# Altium footprint library Connector_Molex.PcbLib: 815 footprints (part 35 of 51)
Each footprint in its own frame and in the unit in brackets; x right, y up, seen from the top. Pads: shape width x height; smd on the part's side, far side on the other; paste and mask are expansions set on the pad; w line width, h text height; cw(c..) or ccw(c..) is an arc to the next point about the centre after c.
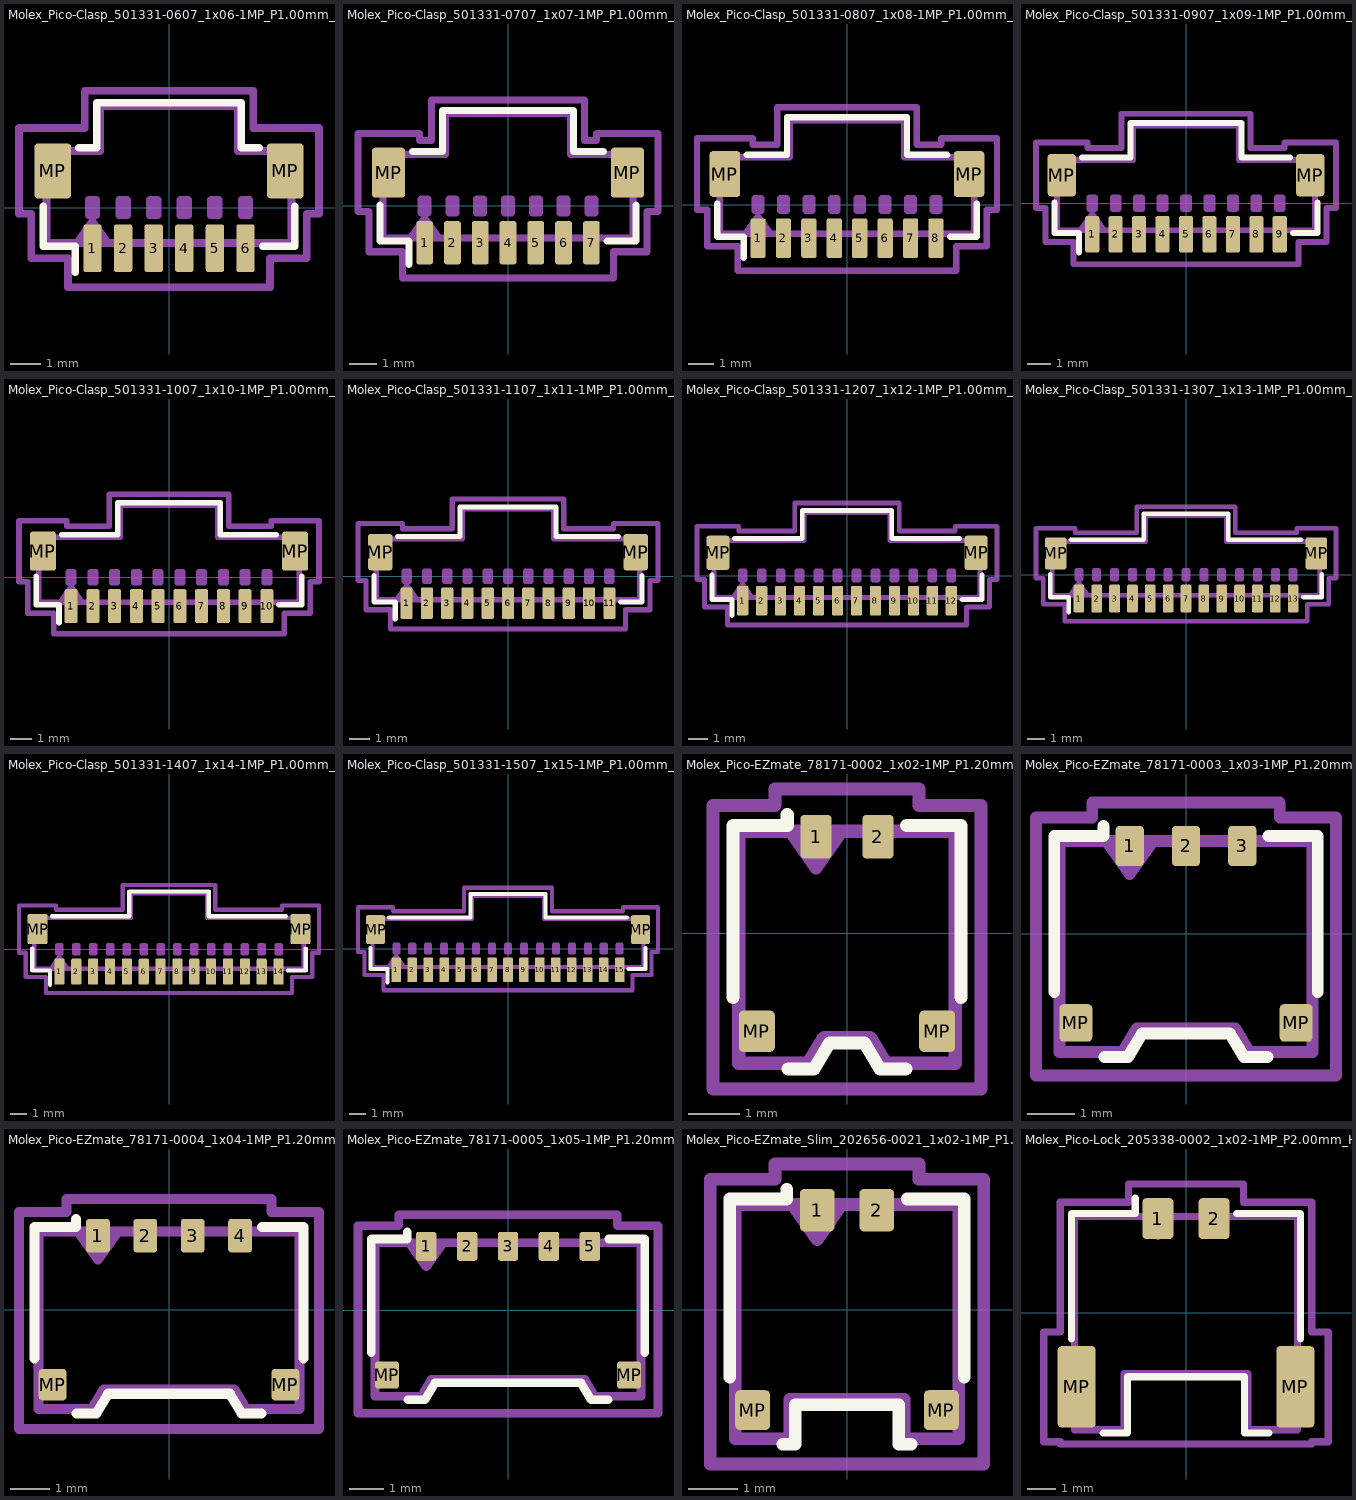
[diagram p34: the footprints below, top view; thin cyan lines are the x and y axes]

## Molex_Pico-Clasp_501331-0607_1x06-1MP_P1.00mm_Vertical [mm]
pads (8):
  rrect25% 0.6x1.55 smd: 1(-2.5,-1.325) 2(-1.5,-1.325) 3(-0.5,-1.325) 4(0.5,-1.325) 5(1.5,-1.325) 6(2.5,-1.325)
  rrect21% 1.2x1.8 smd: MP(-3.8,1.2) MP(3.8,1.2)
F.SilkS:
  lines w0.254: -4.11,0.04 -4.11,-1.26 -3.06,-1.26 -3.06,-2.1 ; -2.94,1.96 -2.36,1.96 -2.36,3.43 2.36,3.43 2.36,1.96 2.94,1.96 ; 3.06,-1.26 4.11,-1.26 4.11,0.04
Top Assembly:
  lines w0.254: -3,-1.15 -2.5,-0.443 -2,-1.15 ; -4,-1.15 4,-1.15 4,1.85 2.25,1.85 2.25,3.32 -2.25,3.32 -2.25,1.85 -4,1.85 -4,-1.15 ; -2.625,-0.25 -2.375,-0.25 -2.375,0.25 -2.625,0.25 -2.625,-0.25 ; -1.625,-0.25 -1.375,-0.25 -1.375,0.25 -1.625,0.25 -1.625,-0.25 ; -0.625,-0.25 -0.375,-0.25 -0.375,0.25 -0.625,0.25 -0.625,-0.25 ; 0.375,-0.25 0.625,-0.25 0.625,0.25 0.375,0.25 0.375,-0.25 ; 1.375,-0.25 1.625,-0.25 1.625,0.25 1.375,0.25 1.375,-0.25 ; 2.375,-0.25 2.625,-0.25 2.625,0.25 2.375,0.25 2.375,-0.25
  text "'.Designator'" at -4.047,0.31 h1
Top Courtyard:
  lines w0.254: -4.9,-0.2 -4.5,-0.2 -4.5,-1.65 -3.3,-1.65 -3.3,-2.6 3.3,-2.6 3.3,-1.65 4.5,-1.65 4.5,-0.2 4.9,-0.2 4.9,2.6 2.75,2.6 2.75,3.82 -2.75,3.82 -2.75,2.6 -4.9,2.6 -4.9,-0.2
Top Designator:
  text ".Designator" at -7.618,0.102 h1.52

## Molex_Pico-Clasp_501331-0707_1x07-1MP_P1.00mm_Vertical [mm]
pads (9):
  rrect25% 0.6x1.55 smd: 1(-3,-1.325) 2(-2,-1.325) 3(-1,-1.325) 4(0,-1.325) 5(1,-1.325) 6(2,-1.325) 7(3,-1.325)
  rrect21% 1.2x1.8 smd: MP(-4.3,1.2) MP(4.3,1.2)
F.SilkS:
  lines w0.254: -4.61,0.04 -4.61,-1.26 -3.56,-1.26 -3.56,-2.1 ; -3.44,1.96 -2.36,1.96 -2.36,3.43 2.36,3.43 2.36,1.96 3.44,1.96 ; 3.56,-1.26 4.61,-1.26 4.61,0.04
Top Assembly:
  lines w0.254: -3.5,-1.15 -3,-0.443 -2.5,-1.15 ; -4.5,-1.15 4.5,-1.15 4.5,1.85 2.25,1.85 2.25,3.32 -2.25,3.32 -2.25,1.85 -4.5,1.85 -4.5,-1.15 ; -3.125,-0.25 -2.875,-0.25 -2.875,0.25 -3.125,0.25 -3.125,-0.25 ; -2.125,-0.25 -1.875,-0.25 -1.875,0.25 -2.125,0.25 -2.125,-0.25 ; -1.125,-0.25 -0.875,-0.25 -0.875,0.25 -1.125,0.25 -1.125,-0.25 ; -0.125,-0.25 0.125,-0.25 0.125,0.25 -0.125,0.25 -0.125,-0.25 ; 0.875,-0.25 1.125,-0.25 1.125,0.25 0.875,0.25 0.875,-0.25 ; 1.875,-0.25 2.125,-0.25 2.125,0.25 1.875,0.25 1.875,-0.25 ; 2.875,-0.25 3.125,-0.25 3.125,0.25 2.875,0.25 2.875,-0.25
  text "'.Designator'" at -4.047,0.31 h1
Top Courtyard:
  lines w0.254: -5.4,-0.2 -5,-0.2 -5,-1.65 -3.8,-1.65 -3.8,-2.6 3.8,-2.6 3.8,-1.65 5,-1.65 5,-0.2 5.4,-0.2 5.4,2.6 3.19,2.6 3.19,2.35 2.75,2.35 2.75,3.82 -2.75,3.82 -2.75,2.35 -3.19,2.35 -3.19,2.6 -5.4,2.6 -5.4,-0.2
Top Designator:
  text ".Designator" at -7.618,0.102 h1.52

## Molex_Pico-Clasp_501331-0807_1x08-1MP_P1.00mm_Vertical [mm]
pads (10):
  rrect25% 0.6x1.55 smd: 1(-3.5,-1.325) 2(-2.5,-1.325) 3(-1.5,-1.325) 4(-0.5,-1.325) 5(0.5,-1.325) 6(1.5,-1.325) 7(2.5,-1.325) 8(3.5,-1.325)
  rrect21% 1.2x1.8 smd: MP(-4.8,1.2) MP(4.8,1.2)
F.SilkS:
  lines w0.254: -5.11,0.04 -5.11,-1.26 -4.06,-1.26 -4.06,-2.1 ; -3.94,1.96 -2.36,1.96 -2.36,3.43 2.36,3.43 2.36,1.96 3.94,1.96 ; 4.06,-1.26 5.11,-1.26 5.11,0.04
Top Assembly:
  lines w0.254: -4,-1.15 -3.5,-0.443 -3,-1.15 ; -5,-1.15 5,-1.15 5,1.85 2.25,1.85 2.25,3.32 -2.25,3.32 -2.25,1.85 -5,1.85 -5,-1.15 ; -3.625,-0.25 -3.375,-0.25 -3.375,0.25 -3.625,0.25 -3.625,-0.25 ; -2.625,-0.25 -2.375,-0.25 -2.375,0.25 -2.625,0.25 -2.625,-0.25 ; -1.625,-0.25 -1.375,-0.25 -1.375,0.25 -1.625,0.25 -1.625,-0.25 ; -0.625,-0.25 -0.375,-0.25 -0.375,0.25 -0.625,0.25 -0.625,-0.25 ; 0.375,-0.25 0.625,-0.25 0.625,0.25 0.375,0.25 0.375,-0.25 ; 1.375,-0.25 1.625,-0.25 1.625,0.25 1.375,0.25 1.375,-0.25 ; 2.375,-0.25 2.625,-0.25 2.625,0.25 2.375,0.25 2.375,-0.25 ; 3.375,-0.25 3.625,-0.25 3.625,0.25 3.375,0.25 3.375,-0.25
  text "'.Designator'" at -4.047,0.31 h1
Top Courtyard:
  lines w0.254: -5.9,-0.2 -5.5,-0.2 -5.5,-1.65 -4.3,-1.65 -4.3,-2.6 4.3,-2.6 4.3,-1.65 5.5,-1.65 5.5,-0.2 5.9,-0.2 5.9,2.6 3.7,2.6 3.7,2.35 2.75,2.35 2.75,3.82 -2.75,3.82 -2.75,2.35 -3.7,2.35 -3.7,2.6 -5.9,2.6 -5.9,-0.2
Top Designator:
  text ".Designator" at -7.618,0.102 h1.52

## Molex_Pico-Clasp_501331-0907_1x09-1MP_P1.00mm_Vertical [mm]
pads (11):
  rrect25% 0.6x1.55 smd: 1(-4,-1.325) 2(-3,-1.325) 3(-2,-1.325) 4(-1,-1.325) 5(0,-1.325) 6(1,-1.325) 7(2,-1.325) 8(3,-1.325) 9(4,-1.325)
  rrect21% 1.2x1.8 smd: MP(-5.3,1.2) MP(5.3,1.2)
F.SilkS:
  lines w0.254: -5.61,0.04 -5.61,-1.26 -4.56,-1.26 -4.56,-2.1 ; -4.44,1.96 -2.36,1.96 -2.36,3.43 2.36,3.43 2.36,1.96 4.44,1.96 ; 4.56,-1.26 5.61,-1.26 5.61,0.04
Top Assembly:
  lines w0.254: -4.5,-1.15 -4,-0.443 -3.5,-1.15 ; -5.5,-1.15 5.5,-1.15 5.5,1.85 2.25,1.85 2.25,3.32 -2.25,3.32 -2.25,1.85 -5.5,1.85 -5.5,-1.15 ; -4.125,-0.25 -3.875,-0.25 -3.875,0.25 -4.125,0.25 -4.125,-0.25 ; -3.125,-0.25 -2.875,-0.25 -2.875,0.25 -3.125,0.25 -3.125,-0.25 ; -2.125,-0.25 -1.875,-0.25 -1.875,0.25 -2.125,0.25 -2.125,-0.25 ; -1.125,-0.25 -0.875,-0.25 -0.875,0.25 -1.125,0.25 -1.125,-0.25 ; -0.125,-0.25 0.125,-0.25 0.125,0.25 -0.125,0.25 -0.125,-0.25 ; 0.875,-0.25 1.125,-0.25 1.125,0.25 0.875,0.25 0.875,-0.25 ; 1.875,-0.25 2.125,-0.25 2.125,0.25 1.875,0.25 1.875,-0.25 ; 2.875,-0.25 3.125,-0.25 3.125,0.25 2.875,0.25 2.875,-0.25 ; 3.875,-0.25 4.125,-0.25 4.125,0.25 3.875,0.25 3.875,-0.25
  text "'.Designator'" at -4.047,0.31 h1
Top Courtyard:
  lines w0.254: -6.4,-0.2 -6,-0.2 -6,-1.65 -4.8,-1.65 -4.8,-2.6 4.8,-2.6 4.8,-1.65 6,-1.65 6,-0.2 6.4,-0.2 6.4,2.6 4.2,2.6 4.2,2.35 2.75,2.35 2.75,3.82 -2.75,3.82 -2.75,2.35 -4.2,2.35 -4.2,2.6 -6.4,2.6 -6.4,-0.2
Top Designator:
  text ".Designator" at -7.618,0.102 h1.52

## Molex_Pico-Clasp_501331-1007_1x10-1MP_P1.00mm_Vertical [mm]
pads (12):
  rrect25% 0.6x1.55 smd: 1(-4.5,-1.325) 2(-3.5,-1.325) 3(-2.5,-1.325) 4(-1.5,-1.325) 5(-0.5,-1.325) 6(0.5,-1.325) 7(1.5,-1.325) 8(2.5,-1.325) 9(3.5,-1.325) 10(4.5,-1.325)
  rrect21% 1.2x1.8 smd: MP(-5.8,1.2) MP(5.8,1.2)
F.SilkS:
  lines w0.254: -6.11,0.04 -6.11,-1.26 -5.06,-1.26 -5.06,-2.1 ; -4.94,1.96 -2.36,1.96 -2.36,3.43 2.36,3.43 2.36,1.96 4.94,1.96 ; 5.06,-1.26 6.11,-1.26 6.11,0.04
Top Assembly:
  lines w0.254: -5,-1.15 -4.5,-0.443 -4,-1.15 ; -6,-1.15 6,-1.15 6,1.85 2.25,1.85 2.25,3.32 -2.25,3.32 -2.25,1.85 -6,1.85 -6,-1.15 ; -4.625,-0.25 -4.375,-0.25 -4.375,0.25 -4.625,0.25 -4.625,-0.25 ; -3.625,-0.25 -3.375,-0.25 -3.375,0.25 -3.625,0.25 -3.625,-0.25 ; -2.625,-0.25 -2.375,-0.25 -2.375,0.25 -2.625,0.25 -2.625,-0.25 ; -1.625,-0.25 -1.375,-0.25 -1.375,0.25 -1.625,0.25 -1.625,-0.25 ; -0.625,-0.25 -0.375,-0.25 -0.375,0.25 -0.625,0.25 -0.625,-0.25 ; 0.375,-0.25 0.625,-0.25 0.625,0.25 0.375,0.25 0.375,-0.25 ; 1.375,-0.25 1.625,-0.25 1.625,0.25 1.375,0.25 1.375,-0.25 ; 2.375,-0.25 2.625,-0.25 2.625,0.25 2.375,0.25 2.375,-0.25 ; 3.375,-0.25 3.625,-0.25 3.625,0.25 3.375,0.25 3.375,-0.25 ; 4.375,-0.25 4.625,-0.25 4.625,0.25 4.375,0.25 4.375,-0.25
  text "'.Designator'" at -4.047,0.31 h1
Top Courtyard:
  lines w0.254: -6.9,-0.2 -6.5,-0.2 -6.5,-1.65 -5.3,-1.65 -5.3,-2.6 5.3,-2.6 5.3,-1.65 6.5,-1.65 6.5,-0.2 6.9,-0.2 6.9,2.6 4.7,2.6 4.7,2.35 2.75,2.35 2.75,3.82 -2.75,3.82 -2.75,2.35 -4.7,2.35 -4.7,2.6 -6.9,2.6 -6.9,-0.2
Top Designator:
  text ".Designator" at -7.618,0.102 h1.52

## Molex_Pico-Clasp_501331-1107_1x11-1MP_P1.00mm_Vertical [mm]
pads (13):
  rrect25% 0.6x1.55 smd: 1(-5,-1.325) 2(-4,-1.325) 3(-3,-1.325) 4(-2,-1.325) 5(-1,-1.325) 6(0,-1.325) 7(1,-1.325) 8(2,-1.325) 9(3,-1.325) 10(4,-1.325) 11(5,-1.325)
  rrect21% 1.2x1.8 smd: MP(-6.3,1.2) MP(6.3,1.2)
F.SilkS:
  lines w0.254: -6.61,0.04 -6.61,-1.26 -5.56,-1.26 -5.56,-2.1 ; -5.44,1.96 -2.36,1.96 -2.36,3.43 2.36,3.43 2.36,1.96 5.44,1.96 ; 5.56,-1.26 6.61,-1.26 6.61,0.04
Top Assembly:
  lines w0.254: -5.5,-1.15 -5,-0.443 -4.5,-1.15 ; -6.5,-1.15 6.5,-1.15 6.5,1.85 2.25,1.85 2.25,3.32 -2.25,3.32 -2.25,1.85 -6.5,1.85 -6.5,-1.15 ; -5.125,-0.25 -4.875,-0.25 -4.875,0.25 -5.125,0.25 -5.125,-0.25 ; -4.125,-0.25 -3.875,-0.25 -3.875,0.25 -4.125,0.25 -4.125,-0.25 ; -3.125,-0.25 -2.875,-0.25 -2.875,0.25 -3.125,0.25 -3.125,-0.25 ; -2.125,-0.25 -1.875,-0.25 -1.875,0.25 -2.125,0.25 -2.125,-0.25 ; -1.125,-0.25 -0.875,-0.25 -0.875,0.25 -1.125,0.25 -1.125,-0.25 ; -0.125,-0.25 0.125,-0.25 0.125,0.25 -0.125,0.25 -0.125,-0.25 ; 0.875,-0.25 1.125,-0.25 1.125,0.25 0.875,0.25 0.875,-0.25 ; 1.875,-0.25 2.125,-0.25 2.125,0.25 1.875,0.25 1.875,-0.25 ; 2.875,-0.25 3.125,-0.25 3.125,0.25 2.875,0.25 2.875,-0.25 ; 3.875,-0.25 4.125,-0.25 4.125,0.25 3.875,0.25 3.875,-0.25 ; 4.875,-0.25 5.125,-0.25 5.125,0.25 4.875,0.25 4.875,-0.25
  text "'.Designator'" at -4.047,0.31 h1
Top Courtyard:
  lines w0.254: -7.4,-0.2 -7,-0.2 -7,-1.65 -5.8,-1.65 -5.8,-2.6 5.8,-2.6 5.8,-1.65 7,-1.65 7,-0.2 7.4,-0.2 7.4,2.6 5.2,2.6 5.2,2.35 2.75,2.35 2.75,3.82 -2.75,3.82 -2.75,2.35 -5.2,2.35 -5.2,2.6 -7.4,2.6 -7.4,-0.2
Top Designator:
  text ".Designator" at -7.618,0.102 h1.52

## Molex_Pico-Clasp_501331-1207_1x12-1MP_P1.00mm_Vertical [mm]
pads (14):
  rrect25% 0.6x1.55 smd: 1(-5.5,-1.325) 2(-4.5,-1.325) 3(-3.5,-1.325) 4(-2.5,-1.325) 5(-1.5,-1.325) 6(-0.5,-1.325) 7(0.5,-1.325) 8(1.5,-1.325) 9(2.5,-1.325) 10(3.5,-1.325) 11(4.5,-1.325) 12(5.5,-1.325)
  rrect21% 1.2x1.8 smd: MP(-6.8,1.2) MP(6.8,1.2)
F.SilkS:
  lines w0.254: -7.11,0.04 -7.11,-1.26 -6.06,-1.26 -6.06,-2.1 ; -5.94,1.96 -2.36,1.96 -2.36,3.43 2.36,3.43 2.36,1.96 5.94,1.96 ; 6.06,-1.26 7.11,-1.26 7.11,0.04
Top Assembly:
  lines w0.254: -6,-1.15 -5.5,-0.443 -5,-1.15 ; -7,-1.15 7,-1.15 7,1.85 2.25,1.85 2.25,3.32 -2.25,3.32 -2.25,1.85 -7,1.85 -7,-1.15 ; -5.625,-0.25 -5.375,-0.25 -5.375,0.25 -5.625,0.25 -5.625,-0.25 ; -4.625,-0.25 -4.375,-0.25 -4.375,0.25 -4.625,0.25 -4.625,-0.25 ; -3.625,-0.25 -3.375,-0.25 -3.375,0.25 -3.625,0.25 -3.625,-0.25 ; -2.625,-0.25 -2.375,-0.25 -2.375,0.25 -2.625,0.25 -2.625,-0.25 ; -1.625,-0.25 -1.375,-0.25 -1.375,0.25 -1.625,0.25 -1.625,-0.25 ; -0.625,-0.25 -0.375,-0.25 -0.375,0.25 -0.625,0.25 -0.625,-0.25 ; 0.375,-0.25 0.625,-0.25 0.625,0.25 0.375,0.25 0.375,-0.25 ; 1.375,-0.25 1.625,-0.25 1.625,0.25 1.375,0.25 1.375,-0.25 ; 2.375,-0.25 2.625,-0.25 2.625,0.25 2.375,0.25 2.375,-0.25 ; 3.375,-0.25 3.625,-0.25 3.625,0.25 3.375,0.25 3.375,-0.25 ; 4.375,-0.25 4.625,-0.25 4.625,0.25 4.375,0.25 4.375,-0.25 ; 5.375,-0.25 5.625,-0.25 5.625,0.25 5.375,0.25 5.375,-0.25
  text "'.Designator'" at -4.047,0.31 h1
Top Courtyard:
  lines w0.254: -7.9,-0.2 -7.5,-0.2 -7.5,-1.65 -6.3,-1.65 -6.3,-2.6 6.3,-2.6 6.3,-1.65 7.5,-1.65 7.5,-0.2 7.9,-0.2 7.9,2.6 5.7,2.6 5.7,2.35 2.75,2.35 2.75,3.82 -2.75,3.82 -2.75,2.35 -5.7,2.35 -5.7,2.6 -7.9,2.6 -7.9,-0.2
Top Designator:
  text ".Designator" at -7.618,0.102 h1.52

## Molex_Pico-Clasp_501331-1307_1x13-1MP_P1.00mm_Vertical [mm]
pads (15):
  rrect25% 0.6x1.55 smd: 1(-6,-1.325) 2(-5,-1.325) 3(-4,-1.325) 4(-3,-1.325) 5(-2,-1.325) 6(-1,-1.325) 7(0,-1.325) 8(1,-1.325) 9(2,-1.325) 10(3,-1.325) 11(4,-1.325) 12(5,-1.325) 13(6,-1.325)
  rrect21% 1.2x1.8 smd: MP(-7.3,1.2) MP(7.3,1.2)
F.SilkS:
  lines w0.254: -7.61,0.04 -7.61,-1.26 -6.56,-1.26 -6.56,-2.1 ; -6.44,1.96 -2.36,1.96 -2.36,3.43 2.36,3.43 2.36,1.96 6.44,1.96 ; 6.56,-1.26 7.61,-1.26 7.61,0.04
Top Assembly:
  lines w0.254: -6.5,-1.15 -6,-0.443 -5.5,-1.15 ; -7.5,-1.15 7.5,-1.15 7.5,1.85 2.25,1.85 2.25,3.32 -2.25,3.32 -2.25,1.85 -7.5,1.85 -7.5,-1.15 ; -6.125,-0.25 -5.875,-0.25 -5.875,0.25 -6.125,0.25 -6.125,-0.25 ; -5.125,-0.25 -4.875,-0.25 -4.875,0.25 -5.125,0.25 -5.125,-0.25 ; -4.125,-0.25 -3.875,-0.25 -3.875,0.25 -4.125,0.25 -4.125,-0.25 ; -3.125,-0.25 -2.875,-0.25 -2.875,0.25 -3.125,0.25 -3.125,-0.25 ; -2.125,-0.25 -1.875,-0.25 -1.875,0.25 -2.125,0.25 -2.125,-0.25 ; -1.125,-0.25 -0.875,-0.25 -0.875,0.25 -1.125,0.25 -1.125,-0.25 ; -0.125,-0.25 0.125,-0.25 0.125,0.25 -0.125,0.25 -0.125,-0.25 ; 0.875,-0.25 1.125,-0.25 1.125,0.25 0.875,0.25 0.875,-0.25 ; 1.875,-0.25 2.125,-0.25 2.125,0.25 1.875,0.25 1.875,-0.25 ; 2.875,-0.25 3.125,-0.25 3.125,0.25 2.875,0.25 2.875,-0.25 ; 3.875,-0.25 4.125,-0.25 4.125,0.25 3.875,0.25 3.875,-0.25 ; 4.875,-0.25 5.125,-0.25 5.125,0.25 4.875,0.25 4.875,-0.25 ; 5.875,-0.25 6.125,-0.25 6.125,0.25 5.875,0.25 5.875,-0.25
  text "'.Designator'" at -4.047,0.31 h1
Top Courtyard:
  lines w0.254: -8.4,-0.2 -8,-0.2 -8,-1.65 -6.8,-1.65 -6.8,-2.6 6.8,-2.6 6.8,-1.65 8,-1.65 8,-0.2 8.4,-0.2 8.4,2.6 6.2,2.6 6.2,2.35 2.75,2.35 2.75,3.82 -2.75,3.82 -2.75,2.35 -6.2,2.35 -6.2,2.6 -8.4,2.6 -8.4,-0.2
Top Designator:
  text ".Designator" at -7.618,0.102 h1.52

## Molex_Pico-Clasp_501331-1407_1x14-1MP_P1.00mm_Vertical [mm]
pads (16):
  rrect25% 0.6x1.55 smd: 1(-6.5,-1.325) 2(-5.5,-1.325) 3(-4.5,-1.325) 4(-3.5,-1.325) 5(-2.5,-1.325) 6(-1.5,-1.325) 7(-0.5,-1.325) 8(0.5,-1.325) 9(1.5,-1.325) 10(2.5,-1.325) 11(3.5,-1.325) 12(4.5,-1.325) 13(5.5,-1.325) 14(6.5,-1.325)
  rrect21% 1.2x1.8 smd: MP(-7.8,1.2) MP(7.8,1.2)
F.SilkS:
  lines w0.254: -8.11,0.04 -8.11,-1.26 -7.06,-1.26 -7.06,-2.1 ; -6.94,1.96 -2.36,1.96 -2.36,3.43 2.36,3.43 2.36,1.96 6.94,1.96 ; 7.06,-1.26 8.11,-1.26 8.11,0.04
Top Assembly:
  lines w0.254: -7,-1.15 -6.5,-0.443 -6,-1.15 ; -8,-1.15 8,-1.15 8,1.85 2.25,1.85 2.25,3.32 -2.25,3.32 -2.25,1.85 -8,1.85 -8,-1.15 ; -6.625,-0.25 -6.375,-0.25 -6.375,0.25 -6.625,0.25 -6.625,-0.25 ; -5.625,-0.25 -5.375,-0.25 -5.375,0.25 -5.625,0.25 -5.625,-0.25 ; -4.625,-0.25 -4.375,-0.25 -4.375,0.25 -4.625,0.25 -4.625,-0.25 ; -3.625,-0.25 -3.375,-0.25 -3.375,0.25 -3.625,0.25 -3.625,-0.25 ; -2.625,-0.25 -2.375,-0.25 -2.375,0.25 -2.625,0.25 -2.625,-0.25 ; -1.625,-0.25 -1.375,-0.25 -1.375,0.25 -1.625,0.25 -1.625,-0.25 ; -0.625,-0.25 -0.375,-0.25 -0.375,0.25 -0.625,0.25 -0.625,-0.25 ; 0.375,-0.25 0.625,-0.25 0.625,0.25 0.375,0.25 0.375,-0.25 ; 1.375,-0.25 1.625,-0.25 1.625,0.25 1.375,0.25 1.375,-0.25 ; 2.375,-0.25 2.625,-0.25 2.625,0.25 2.375,0.25 2.375,-0.25 ; 3.375,-0.25 3.625,-0.25 3.625,0.25 3.375,0.25 3.375,-0.25 ; 4.375,-0.25 4.625,-0.25 4.625,0.25 4.375,0.25 4.375,-0.25 ; 5.375,-0.25 5.625,-0.25 5.625,0.25 5.375,0.25 5.375,-0.25 ; 6.375,-0.25 6.625,-0.25 6.625,0.25 6.375,0.25 6.375,-0.25
  text "'.Designator'" at -4.047,0.31 h1
Top Courtyard:
  lines w0.254: -8.9,-0.2 -8.5,-0.2 -8.5,-1.65 -7.3,-1.65 -7.3,-2.6 7.3,-2.6 7.3,-1.65 8.5,-1.65 8.5,-0.2 8.9,-0.2 8.9,2.6 6.7,2.6 6.7,2.35 2.75,2.35 2.75,3.82 -2.75,3.82 -2.75,2.35 -6.7,2.35 -6.7,2.6 -8.9,2.6 -8.9,-0.2
Top Designator:
  text ".Designator" at -7.618,0.102 h1.52

## Molex_Pico-Clasp_501331-1507_1x15-1MP_P1.00mm_Vertical [mm]
pads (17):
  rrect25% 0.6x1.55 smd: 1(-7,-1.325) 2(-6,-1.325) 3(-5,-1.325) 4(-4,-1.325) 5(-3,-1.325) 6(-2,-1.325) 7(-1,-1.325) 8(0,-1.325) 9(1,-1.325) 10(2,-1.325) 11(3,-1.325) 12(4,-1.325) 13(5,-1.325) 14(6,-1.325) 15(7,-1.325)
  rrect21% 1.2x1.8 smd: MP(-8.3,1.2) MP(8.3,1.2)
F.SilkS:
  lines w0.254: -8.61,0.04 -8.61,-1.26 -7.56,-1.26 -7.56,-2.1 ; -7.44,1.96 -2.36,1.96 -2.36,3.43 2.36,3.43 2.36,1.96 7.44,1.96 ; 7.56,-1.26 8.61,-1.26 8.61,0.04
Top Assembly:
  lines w0.254: -7.5,-1.15 -7,-0.443 -6.5,-1.15 ; -8.5,-1.15 8.5,-1.15 8.5,1.85 2.25,1.85 2.25,3.32 -2.25,3.32 -2.25,1.85 -8.5,1.85 -8.5,-1.15 ; -7.125,-0.25 -6.875,-0.25 -6.875,0.25 -7.125,0.25 -7.125,-0.25 ; -6.125,-0.25 -5.875,-0.25 -5.875,0.25 -6.125,0.25 -6.125,-0.25 ; -5.125,-0.25 -4.875,-0.25 -4.875,0.25 -5.125,0.25 -5.125,-0.25 ; -4.125,-0.25 -3.875,-0.25 -3.875,0.25 -4.125,0.25 -4.125,-0.25 ; -3.125,-0.25 -2.875,-0.25 -2.875,0.25 -3.125,0.25 -3.125,-0.25 ; -2.125,-0.25 -1.875,-0.25 -1.875,0.25 -2.125,0.25 -2.125,-0.25 ; -1.125,-0.25 -0.875,-0.25 -0.875,0.25 -1.125,0.25 -1.125,-0.25 ; -0.125,-0.25 0.125,-0.25 0.125,0.25 -0.125,0.25 -0.125,-0.25 ; 0.875,-0.25 1.125,-0.25 1.125,0.25 0.875,0.25 0.875,-0.25 ; 1.875,-0.25 2.125,-0.25 2.125,0.25 1.875,0.25 1.875,-0.25 ; 2.875,-0.25 3.125,-0.25 3.125,0.25 2.875,0.25 2.875,-0.25 ; 3.875,-0.25 4.125,-0.25 4.125,0.25 3.875,0.25 3.875,-0.25 ; 4.875,-0.25 5.125,-0.25 5.125,0.25 4.875,0.25 4.875,-0.25 ; 5.875,-0.25 6.125,-0.25 6.125,0.25 5.875,0.25 5.875,-0.25 ; 6.875,-0.25 7.125,-0.25 7.125,0.25 6.875,0.25 6.875,-0.25
  text "'.Designator'" at -4.047,0.31 h1
Top Courtyard:
  lines w0.254: -9.4,-0.2 -9,-0.2 -9,-1.65 -7.8,-1.65 -7.8,-2.6 7.8,-2.6 7.8,-1.65 9,-1.65 9,-0.2 9.4,-0.2 9.4,2.6 7.2,2.6 7.2,2.35 2.75,2.35 2.75,3.82 -2.75,3.82 -2.75,2.35 -7.2,2.35 -7.2,2.6 -9.4,2.6 -9.4,-0.2
Top Designator:
  text ".Designator" at -7.618,0.102 h1.52

## Molex_Pico-EZmate_78171-0002_1x02-1MP_P1.20mm_Vertical [mm]
pads (4):
  rrect25% 0.6x0.85 smd: 1(-0.6,1.875) 2(0.6,1.875)
  rrect25% 0.7x0.8 smd: MP(-1.75,-1.9) MP(1.75,-1.9)
F.SilkS:
  lines w0.254: -2.21,-1.24 -2.21,2.09 -1.16,2.09 -1.16,2.3 ; -1.14,-2.63 -0.64,-2.63 -0.34,-2.13 0.34,-2.13 0.64,-2.63 1.14,-2.63 ; 1.16,2.09 2.21,2.09 2.21,-1.24
Top Assembly:
  lines w0.254: -1.1,1.98 -0.6,1.273 -0.1,1.98 ; -2.1,-2.52 -0.75,-2.52 -0.45,-2.02 0.45,-2.02 0.75,-2.52 2.1,-2.52 2.1,1.98 -2.1,1.98 -2.1,-2.52
  text "'.Designator'" at -4.047,-1.11 h1
Top Courtyard:
  lines w0.254: -2.6,-3.02 2.6,-3.02 2.6,2.48 1.4,2.48 1.4,2.8 -1.4,2.8 -1.4,2.48 -2.6,2.48 -2.6,-3.02
Top Designator:
  text ".Designator" at -7.768,-0.618 h1.52

## Molex_Pico-EZmate_78171-0003_1x03-1MP_P1.20mm_Vertical [mm]
pads (5):
  rrect25% 0.6x0.85 smd: 1(-1.2,1.875) 2(0,1.875) 3(1.2,1.875)
  rrect25% 0.7x0.8 smd: MP(-2.35,-1.9) MP(2.35,-1.9)
F.SilkS:
  lines w0.254: -2.81,-1.24 -2.81,2.09 -1.76,2.09 -1.76,2.3 ; -1.74,-2.63 -1.24,-2.63 -0.94,-2.13 0.94,-2.13 1.24,-2.63 1.74,-2.63 ; 1.76,2.09 2.81,2.09 2.81,-1.24
Top Assembly:
  lines w0.254: -1.7,1.98 -1.2,1.273 -0.7,1.98 ; -2.7,-2.52 -1.35,-2.52 -1.05,-2.02 1.05,-2.02 1.35,-2.52 2.7,-2.52 2.7,1.98 -2.7,1.98 -2.7,-2.52
  text "'.Designator'" at -4.047,-1.11 h1
Top Courtyard:
  lines w0.254: -3.2,-3.02 3.2,-3.02 3.2,2.48 2,2.48 2,2.8 -2,2.8 -2,2.48 -3.2,2.48 -3.2,-3.02
Top Designator:
  text ".Designator" at -7.768,-0.618 h1.52

## Molex_Pico-EZmate_78171-0004_1x04-1MP_P1.20mm_Vertical [mm]
pads (6):
  rrect25% 0.6x0.85 smd: 1(-1.8,1.875) 2(-0.6,1.875) 3(0.6,1.875) 4(1.8,1.875)
  rrect25% 0.7x0.8 smd: MP(-2.95,-1.9) MP(2.95,-1.9)
F.SilkS:
  lines w0.254: -3.41,-1.24 -3.41,2.09 -2.36,2.09 -2.36,2.3 ; -2.34,-2.63 -1.84,-2.63 -1.54,-2.13 1.54,-2.13 1.84,-2.63 2.34,-2.63 ; 2.36,2.09 3.41,2.09 3.41,-1.24
Top Assembly:
  lines w0.254: -2.3,1.98 -1.8,1.273 -1.3,1.98 ; -3.3,-2.52 -1.95,-2.52 -1.65,-2.02 1.65,-2.02 1.95,-2.52 3.3,-2.52 3.3,1.98 -3.3,1.98 -3.3,-2.52
  text "'.Designator'" at -4.047,-1.11 h1
Top Courtyard:
  lines w0.254: -3.8,-3.02 3.8,-3.02 3.8,2.48 2.6,2.48 2.6,2.8 -2.6,2.8 -2.6,2.48 -3.8,2.48 -3.8,-3.02
Top Designator:
  text ".Designator" at -7.752,-0.618 h1.52

## Molex_Pico-EZmate_78171-0005_1x05-1MP_P1.20mm_Vertical [mm]
pads (7):
  rrect25% 0.6x0.85 smd: 1(-2.4,1.875) 2(-1.2,1.875) 3(0,1.875) 4(1.2,1.875) 5(2.4,1.875)
  rrect25% 0.7x0.8 smd: MP(-3.55,-1.9) MP(3.55,-1.9)
F.SilkS:
  lines w0.254: -4.01,-1.24 -4.01,2.09 -2.96,2.09 -2.96,2.3 ; -2.94,-2.63 -2.44,-2.63 -2.14,-2.13 2.14,-2.13 2.44,-2.63 2.94,-2.63 ; 2.96,2.09 4.01,2.09 4.01,-1.24
Top Assembly:
  lines w0.254: -2.9,1.98 -2.4,1.273 -1.9,1.98 ; -3.9,-2.52 -2.55,-2.52 -2.25,-2.02 2.25,-2.02 2.55,-2.52 3.9,-2.52 3.9,1.98 -3.9,1.98 -3.9,-2.52
  text "'.Designator'" at -4.047,-1.11 h1
Top Courtyard:
  lines w0.254: -4.4,-3.02 4.4,-3.02 4.4,2.48 3.2,2.48 3.2,2.8 -3.2,2.8 -3.2,2.48 -4.4,2.48 -4.4,-3.02
Top Designator:
  text ".Designator" at -7.618,-0.618 h1.52

## Molex_Pico-EZmate_Slim_202656-0021_1x02-1MP_P1.20mm_Vertical [mm]
pads (4):
  rrect25% 0.7x0.85 smd: 1(-0.6,2) 2(0.6,2)
  rrect25% 0.7x0.8 smd: MP(-1.9,-2.025) MP(1.9,-2.025)
F.SilkS:
  lines w0.254: -2.36,-1.365 -2.36,2.225 -1.21,2.225 -1.21,2.425 ; -1.29,-2.715 -1.04,-2.715 -1.04,-1.915 1.04,-1.915 1.04,-2.715 1.29,-2.715 ; 1.21,2.225 2.36,2.225 2.36,-1.365
Top Assembly:
  lines w0.254: -1.1,2.115 -0.6,1.408 -0.1,2.115 ; -2.25,-2.605 -1.15,-2.605 -1.15,-1.805 1.15,-1.805 1.15,-2.605 2.25,-2.605 2.25,2.115 -2.25,2.115 -2.25,-2.605
  text "'.Designator'" at -4.047,-1.09 h1
Top Courtyard:
  lines w0.254: -2.75,-3.11 2.75,-3.11 2.75,2.62 1.45,2.62 1.45,2.93 -1.45,2.93 -1.45,2.62 -2.75,2.62 -2.75,-3.11
Top Designator:
  text ".Designator" at -7.768,-0.598 h1.52

## Molex_Pico-Lock_205338-0002_1x02-1MP_P2.00mm_Horizontal [mm]
pads (4):
  rrect23% 1.1x1.45 smd: 1(-1,3.36) 2(1,3.36)
  rrect19% 1.35x2.9 smd: MP(-3.895,-2.635) MP(3.895,-2.635)
F.SilkS:
  lines w0.254: -4.085,-0.925 -4.085,3.545 -1.81,3.545 -1.81,4.085 ; -2.96,-4.275 -2.09,-4.275 -2.09,-2.275 2.09,-2.275 2.09,-4.275 2.96,-4.275 ; 1.81,3.545 4.085,3.545 4.085,-0.925
Top Assembly:
  lines w0.254: -1.5,3.435 -1,2.728 -0.5,3.435 ; -3.975,-4.165 -2.2,-4.165 -2.2,-2.165 2.2,-2.165 2.2,-4.165 3.975,-4.165 3.975,3.435 -3.975,3.435 -3.975,-4.165
  text "'.Designator'" at -4.047,-1.21 h1
Top Courtyard:
  lines w0.254: -5.07,-4.59 -4.48,-4.59 -4.48,-4.67 4.48,-4.67 4.48,-4.59 5.07,-4.59 5.07,-0.68 4.48,-0.68 4.48,3.94 2.05,3.94 2.05,4.59 -2.05,4.59 -2.05,3.94 -4.48,3.94 -4.48,-0.68 -5.07,-0.68 -5.07,-4.59
Top Designator:
  text ".Designator" at -7.618,-0.548 h1.52